# Altium integrated library Microphones.IntLib: 1 symbol
Pins are listed as number, name and electrical type; pins without a type are passive.

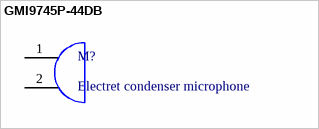
[diagram p0: symbol GMI9745P-44DB]

## GMI9745P-44DB
designator M?, comment Electret condenser microphone
φ9.7 x H4.5mm / -44dB / ≤2.2KΩ / ≤0.5mA / S/N: ≥58 dBA; MPN: GMI9745P-44DB; Directivity: Omnidirectional; Supplier 1: LCSC; Supplier Part Number 1: C233962; Sensitivity: -44dB; Dimension: φ9.7x4.5; ComponentLink1Description: Datasheet; ComponentLink1URL: https://datasheet.lcsc.com/lcsc/2001091809_INGHAi-GMI9745P-44DB_C233962.pdf
footprint GMI9745P-44DB (2.54mm electret condenser microphone, GMI9745P-44DB)
pins: 1 (+), 2 (-)